# Altium footprint library CONN-SPE_ERM8-013-08-X-DV-K.PcbLib: 1 footprints
Each footprint in its own frame and in the unit in brackets; x right, y up, seen from the top. Pads: shape width x height; smd on the part's side, far side on the other; paste and mask are expansions set on the pad; w line width, h text height; cw(c..) or ccw(c..) is an arc to the next point about the centre after c.
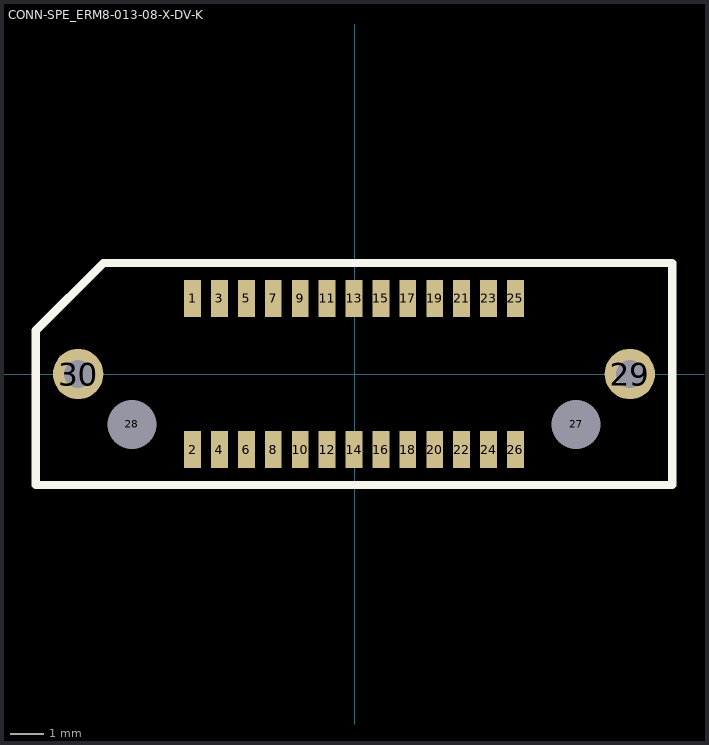
[diagram p0: the footprint, top view; thin cyan lines are the x and y axes]

## CONN-SPE_ERM8-013-08-X-DV-K [mm]
pads (30):
  rect 0.5x1.1 smd mask+0.05: 1(-4.828,2.25) 2(-4.828,-2.25) 3(-4.028,2.25) 4(-4.028,-2.25) 5(-3.228,2.25) 6(-3.228,-2.25) 7(-2.428,2.25) 8(-2.428,-2.25) 9(-1.628,2.25) 10(-1.628,-2.25) 11(-0.828,2.25) 12(-0.828,-2.25) 13(-0.028,2.25) 14(-0.028,-2.25) 15(0.772,2.25) 16(0.772,-2.25) 17(1.572,2.25) 18(1.572,-2.25) 19(2.372,2.25) 20(2.372,-2.25) 21(3.172,2.25) 22(3.172,-2.25) 23(3.972,2.25) 24(3.972,-2.25) 25(4.772,2.25) 26(4.772,-2.25)
  round 0.5 hole 1.45 unplated mask+0.725: 27(6.572,-1.5) 28(-6.628,-1.5)
  round 1.5 hole 0.83 mask+0.075: 29(8.172,0) 30(-8.228,0)
Top Overlay:
  lines w0.25: -9.486,-3.3 -9.486,1.3 -7.478,3.3 9.43,3.3 9.43,-3.3 -9.486,-3.3
3D body: height 11.85, standoff -1.12, extent -8.25,-2.751 8.15,2.851